# EAGLE library part KSZ8091RNB (library micrel)
Physical Layer Transceiver
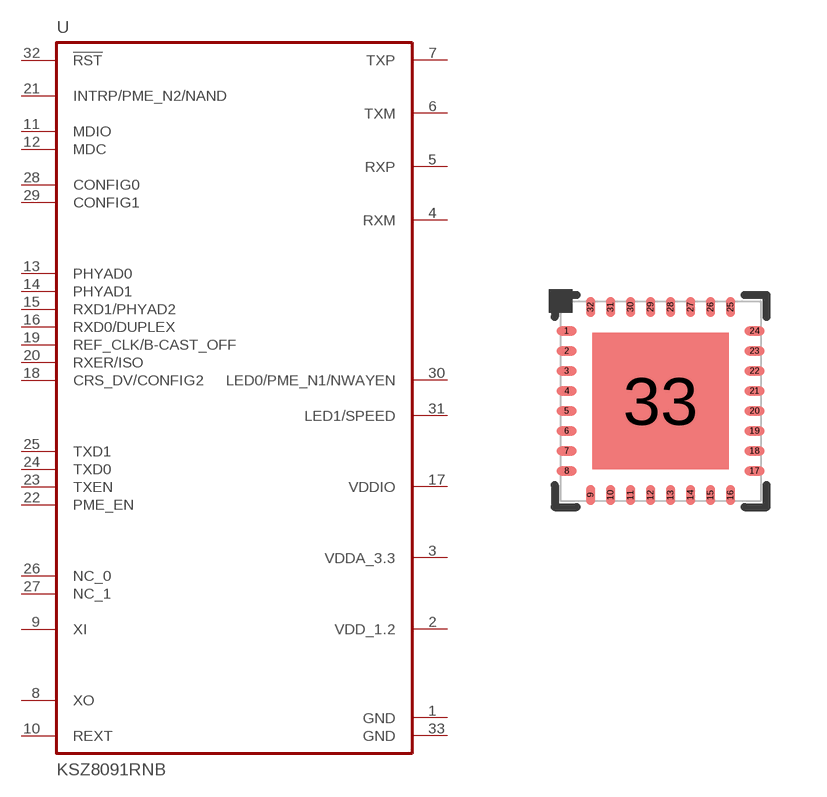
[diagram p19: symbol with the pads of QFN32; footprint QFN32]

Designator prefix U

## KSZ8091RNB  [QFN32]
1  GND  pwr
2  VDD_1.2  out
3  VDDA_3.3  pwr
4  RXM
5  RXP
6  TXM
7  TXP
8  XO  out
9  XI  in
10  REXT  in
11  MDIO
12  MDC  in
13  PHYAD0
14  PHYAD1
15  RXD1/PHYAD2
16  RXD0/DUPLEX
17  VDDIO  pwr
18  CRS_DV/CONFIG2
19  REF_CLK/B-CAST_OFF
20  RXER/ISO
21  INTRP/PME_N2/NAND
22  PME_EN
23  TXEN  in
24  TXD0  in
25  TXD1  in
26  NC_0  in
27  NC_1  in
28  CONFIG0
29  CONFIG1
30  LED0/PME_N1/NWAYEN
31  LED1/SPEED  in
32  !RST!
33  GND  pwr

## Footprint QFN32 (pad centres in mm)
QFN55-32LD-LP-1 pitch 0.5 mm, body 5 x 5 mm
smd 0.5 x 0.23: 1 -2.35,1.75; 2 -2.35,1.25; 3 -2.35,0.75; 4 -2.35,0.25; 5 -2.35,-0.25; 6 -2.35,-0.75; 7 -2.35,-1.25; 8 -2.35,-1.75; 17 2.35,-1.75; 18 2.35,-1.25; 19 2.35,-0.75; 20 2.35,-0.25; 21 2.35,0.25; 22 2.35,0.75; 23 2.35,1.25; 24 2.35,1.75
smd 0.23 x 0.5: 9 -1.75,-2.35; 10 -1.25,-2.35; 11 -0.75,-2.35; 12 -0.25,-2.35; 13 0.25,-2.35; 14 0.75,-2.35; 15 1.25,-2.35; 16 1.75,-2.35; 25 1.75,2.35; 26 1.25,2.35; 27 0.75,2.35; 28 0.25,2.35; 29 -0.25,2.35; 30 -0.75,2.35; 31 -1.25,2.35; 32 -1.75,2.35
smd 3.4 x 3.4: 33 0,0